# Altium footprint library 15W_FP.PcbLib: 26 footprints (part 2 of 2)
Each footprint in its own frame and in the unit in brackets; x right, y up, seen from the top. Pads: shape width x height; smd on the part's side, far side on the other; paste and mask are expansions set on the pad; w line width, h text height; cw(c..) or ccw(c..) is an arc to the next point about the centre after c.
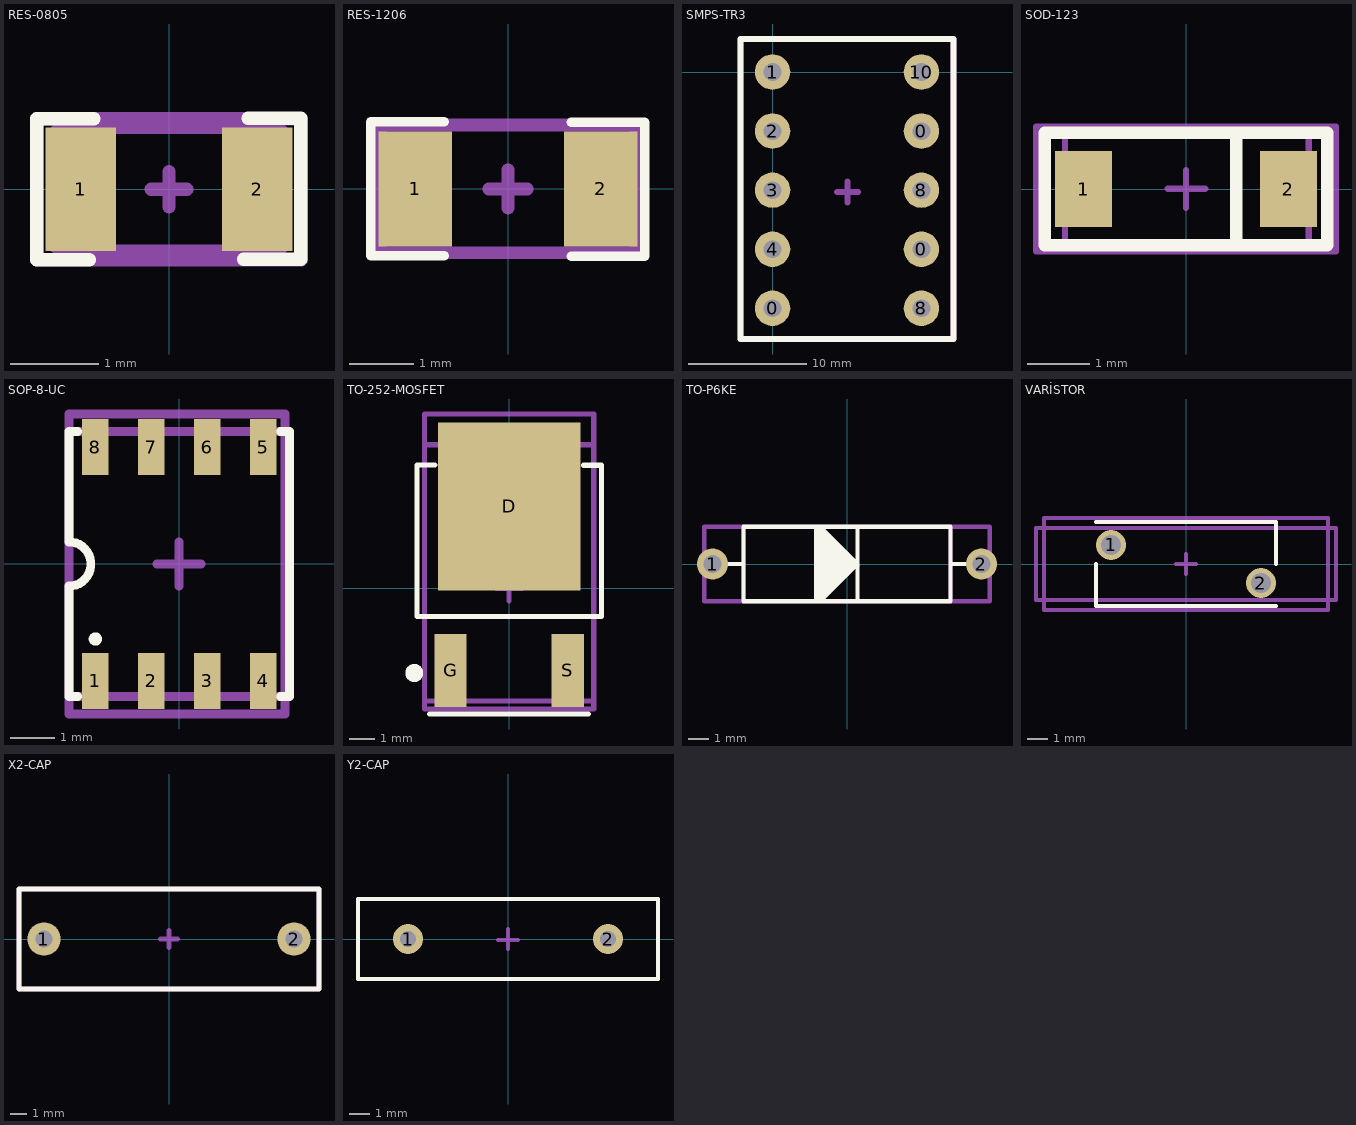
[diagram p1: the footprints below, top view; thin cyan lines are the x and y axes]

## RES-0805 [mm]
pads (2):
  rect 0.8x1.4 smd mask+0.05: 1(-1,0) 2(1,0)
Top Overlay:
  lines w0.15: -0.9,-0.8 -1.5,-0.8 -1.5,0.8 -0.85,0.8 ; 0.844,-0.794 1.494,-0.794 1.494,0.806 0.894,0.806
Top 3D Body:
  lines w0.1: -1.3,-0.675 1.3,-0.675 1.3,0.675 -1.3,0.675 -1.3,-0.675
Top Compenent Center:
  lines w0.15: -0.2,0 0.2,0 ; 0,-0.2 0,0.2 ; -1.5,-0.8 1.5,-0.8 1.5,0.8 -1.5,0.8 -1.5,-0.8
Top Designator:
  lines w0.15: -1.5,-0.8 -1.5,0.8 1.5,0.8 1.5,-0.8 -1.5,-0.8
  text ".Designator" at -3,-1.217 h2.5
3D body "CAPC0805.STEP": height 0.9, standoff 0, extent -1.301,-0.678 1.301,0.678

## RES-1206 [mm]
pads (2):
  rect 1.15x1.8 smd mask+0.05: 1(-1.45,0) 2(1.45,0)
Top Overlay:
  lines w0.15: -1,-1.05 -2.15,-1.05 -2.15,1.05 -1,1.05 ; 0.992,-1.053 2.142,-1.053 2.142,1.047 0.992,1.047
Top 3D Body:
  lines w0.2: -2,-1 -2,1 2,1 2,-1 -2,-1
Top Compenent Center:
  lines w0.2: -0.3,0 0.3,0 ; 0,-0.3 0,0.3 ; -2,-1 -2,1 2,1 2,-1 1.8,-1 -2,-1
Top Designator:
  lines w0.2: -2,-1 2,-1 2,1 -2,1 -2,-1
  text ".Designator" at -2.5,-0.467 h1
3D body "res1206r.STEP": height 0.55, standoff 0, extent -1.984,-0.938 1.984,0.938

## SMPS-TR3 [mm]
pads (10):
  round 3 hole 1.5: 0(0,-20) 0(12.6,-15) 0(12.6,-5) 1(0,0) 2(0,-5) 3(0,-10) 4(0,-15) 8(12.6,-20) 8(12.6,-10) 10(12.6,0)
Top Overlay:
  lines w0.5: -2.7,-22.6 15.3,-22.6 15.3,2.8 -2.7,2.8 -2.7,-22.6
  text "." at 4.15,-0.46 h10
Top Compenent Center:
  lines w0.5: 5.45,-10.16 7.25,-10.16 ; 6.35,-11.06 6.35,-9.26 ; -2.7,-22.6 15.3,-22.6 15.3,2.8 -2.7,2.8 -2.7,-22.6
Top Designator:
  lines w0.5: -2.7,-22.6 -2.7,2.8 15.3,2.8 15.3,-22.6 -2.7,-22.6
  text ".Designator" at -5.6,-19.977 h2.5
3D body "User Library-Trafo EE25.step": height 32.65, standoff -3.2, extent -2.675,-22.606 15.325,2.794

## SOD-123 [mm] "SOD-123"
pads (2):
  rect 0.91x1.22 smd: 1(-1.637,0) 2(1.637,0)
Top Overlay:
  lines w0.2: 0.801,-0.787 0.801,0.787 ; -2.257,-0.9 2.262,-0.9 2.262,0.9 -2.257,0.9 -2.257,-0.9
Top 3D Body:
  lines w0.1: -1.937,-0.9 1.963,-0.9 1.963,0.9 -1.937,0.9 -1.937,-0.9
Top Compenent Center:
  lines w0.1: -0.293,0.004 0.307,0.004 ; 0,-0.3 0,0.3 ; -2.4,-1 2.4,-1 2.4,1 -2.4,1 -2.4,-1
Top Designator:
  lines w0.1: -2.4,-1 2.4,-1 2.4,1 -2.4,1 -2.4,-1
3D body "SOD123.STEP": height 1.42, standoff -0.03, extent -1.938,-0.85 1.912,0.85

## SOP-8-UC [mm]
pads (8):
  rect 0.6x1.27 smd mask+0.05: 1(-1.905,-2.65) 2(-0.635,-2.65) 3(0.635,-2.65) 4(1.905,-2.65) 5(1.905,2.65) 6(0.635,2.65) 7(-0.635,2.65) 8(-1.905,2.65)
Top Overlay:
  circle w0.2: c-1.9,-1.7 r0.05
  lines w0.2: -2.3,-3 -2.5,-3 -2.5,-0.5 ccw(c-2.5,0) -2.5,0.5 -2.5,3 -2.3,3 ; 2.3,-3 2.5,-3 2.5,3 2.3,3
Top 3D Body:
  lines w0.2: -2.5,-3 2.4,-3 2.4,3 -2.5,3 -2.5,-3
Top Compenent Center:
  lines w0.2: -0.5,0 0.5,0 ; 0,-0.5 0,0.5 ; -2.5,-3.4 2.4,-3.4 2.4,3.4 -2.5,3.4 -2.5,-3.4
Top Designator:
  lines w0.2: -2.5,-3.4 2.4,-3.4 2.4,3.4 -2.5,3.4 -2.5,-3.4
  text ".Designator" at 1.017,-4.75 h2.5
3D body "User Library-sop8_model.STEP": height 1.55, standoff -0.01, extent -2.489,-3.016 2.411,2.964

## TO-252-MOSFET [mm]
pads (3):
  rect 5.55x6.55 smd mask+0.05: D(0,3.2)
  rect 1.25x2.85 smd mask+0.05: G(-2.286,-3.2) S(2.286,-3.2)
Top Overlay:
  circle w0.5: c-3.7,-3.3 r0.1
  lines w0.2: -3.6,4.805 -3.6,-1.1 3.6,-1.1 3.6,4.8 2.9,4.8 ; -3.588,4.805 -2.888,4.805 ; -3.1,-4.9 3.1,-4.9
Top 3D Body:
  lines w0.2: -3.3,-4.4 3.3,-4.4 3.3,5.6 -3.3,5.6 -3.3,-4.4
Top Compenent Center:
  lines w0.2: -0.5,0 0.5,0 ; 0,-0.5 0,0.5 ; -3.3,-4.7 3.3,-4.7 3.3,6.8 -3.3,6.8 -3.3,-4.7
Top Designator:
  lines w0.2: -3.3,-4.7 -3.3,6.8 3.3,6.8 3.3,-4.7 -3.3,-4.7
  text ".Designator" at 0.817,-5.75 h2.5
3D body "KA7812ERTM.STEP": height 2.52, standoff 0, extent -3.24,-4.353 3.3,5.552

## TO-P6KE [mm]
pads (2):
  round 1.5 hole 0.85 mask+0.05: 1(-6.5,0) 2(6.5,0)
Top Overlay:
  lines w0.2: -6.5,0 -5,0 ; -2,-1.8 -1.8,-1.8 ; -1.5,-1.8 -1.5,1.8 ; -1.3,-1.8 0.5,0 -1.3,1.8 ; 0.5,-1.8 0.5,1.8 ; 5,0 6.5,0 ; -5,-1.8 -5,1.8 5,1.8 5,-1.8 -5,-1.8
  lines w0.5: -1.3,1.5 -1.3,-1.5 0.2,0 -1,1.2 -1,-0.8 -0.3,-0.1 -0.3,0 -0.8,0.5 -0.8,-0.1
Top 3D Body:
  lines w0.2: -6.9,-1.8 -6.9,1.8 6.9,1.8 6.9,-1.8 -6.9,-1.8
Top Compenent Center:
  lines w0.2: -0.461,-0.051 0.539,-0.051 ; 0,-0.5 0,0.5 ; -5,-1.8 -5,1.8 5,1.8 5,-1.8 -5,-1.8
Top Designator:
  lines w0.2: -5,-1.8 5,-1.8 5,1.8 -5,1.8 -5,-1.8
  text ".Designator" at -8.65,-1.217 h2.5
3D body "P6KE200.STEP": height 3.52, standoff -23.97, extent -6.9,-1.765 6.855,1.765

## VARİSTOR [mm]
pads (2):
  round 1.5 hole 1 mask+0.05: 1(-3.75,0.95) 2(3.75,-0.95)
Top Overlay:
  lines w0.2: -4.5,0 -4.5,-2.1 4.5,-2.1 ; -4.5,2.1 4.5,2.1 4.5,0
Top 3D Body:
  lines w0.2: -7.5,-1.8 7.5,-1.8 7.5,1.8 -7.5,1.8 -7.5,-1.8
Top Compenent Center:
  lines w0.2: -0.5,0 0.5,0 ; 0,-0.5 0,0.5 ; -7.1,-2.3 -7.1,2.3 7.1,2.3 7.1,-2.3 -7.1,-2.3
Top Designator:
  lines w0.2: -7.1,-2.3 7.1,-2.3 7.1,2.3 -7.1,2.3 -7.1,-2.3
  text ".Designator" at -8.05,-1.217 h2.5
3D body "B72214S0171K101--3DModel-STEP-324166.STEP": height 22.5, standoff -17.18, extent -7.5,-1.8 7.5,1.8

## X2-CAP [mm]
pads (2):
  round 2 hole 1: 1(-7.5,0) 2(7.5,0)
Top Overlay:
  lines w0.3: -9,-3 9,-3 9,3 -9,3 -9,-3
Top 3D Body:
  lines w0.3: -9,-3 9,-3 9,3 -9,3 -9,-3
Top Compenent Center:
  lines w0.3: -0.5,0 0.5,0 ; 0,-0.5 0,0.5 ; -9,-3 -9,3 9,3 9,-3 -9,-3
Top Designator:
  lines w0.3: -9,-3 9,-3 9,3 -9,3 -9,-3
  text ".Designator" at -10.15,-0.717 h2.5
3D body "CFR F15 L18 B6 H12.stp": height 12.1, standoff -2.9, extent -9,-3 9,3

## Y2-CAP [mm]
pads (2):
  round 1.5 hole 0.8 mask+0.05: 1(-5,0) 2(5,0)
Top Overlay:
  lines w0.2: -7.5,-2 -7.5,2 7.5,2 7.5,-2 -7.5,-2
Top 3D Body:
  lines w0.2: -7.5,-2 -7.5,2 7.5,2 7.5,-2 -7.5,-2
Top Compenent Center:
  lines w0.2: -0.508,-0.04 0.492,-0.04 ; 0,-0.5 0,0.5 ; -7.5,-2 -7.5,2 7.5,2 7.5,-2 -7.5,-2
Top Designator:
  lines w0.2: -7.5,-2 -7.5,2 7.5,2 7.5,-2 -7.5,-2
  text ".Designator" at -8.95,-1.117 h2.5
3D body: height 2, standoff -3, extent -5.3,-0.3 -4.7,0.3
3D body: height 2, standoff -3, extent 4.7,-0.3 5.3,0.3
3D body: height 9, standoff 0.5, extent -7.5,-2 7.5,2